# Altium footprint library CN_RJ45_ERNI_203197.PcbLib: 1 footprints
Each footprint in its own frame and in the unit in brackets; x right, y up, seen from the top. Pads: shape width x height; smd on the part's side, far side on the other; paste and mask are expansions set on the pad; w line width, h text height; cw(c..) or ccw(c..) is an arc to the next point about the centre after c.
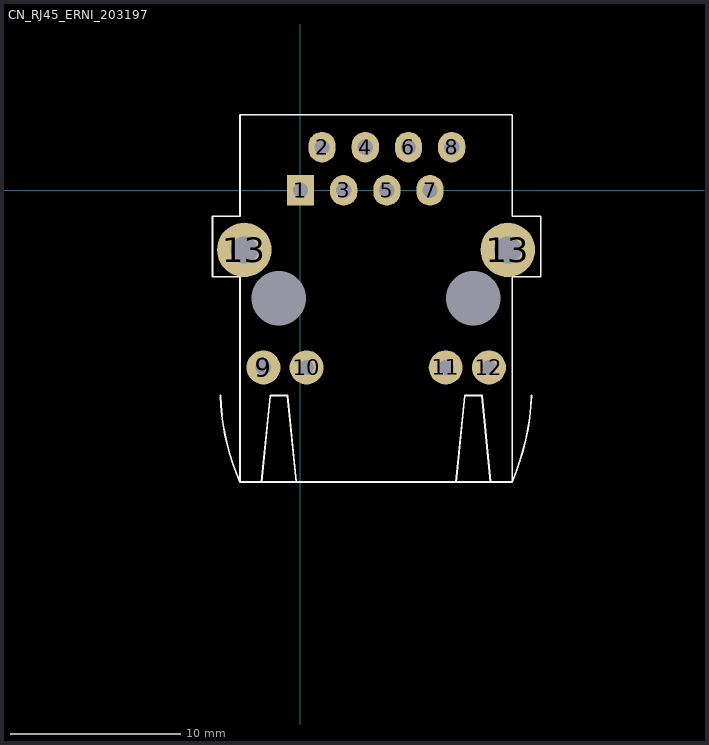
[diagram p0: the footprint, top view; thin cyan lines are the x and y axes]

## CN_RJ45_ERNI_203197 [mm] "90°, two LEDs, Magnetics, Single"
pads (16):
  round 0 hole 3.2 unplated mask+1.6: 0(-1.27,-6.35) 0(10.16,-6.35)
  rect 1.6x1.8 hole 0.9: 1(0,0)
  oval 1.6x1.8 hole 0.9: 2(1.27,2.54) 3(2.54,0) 4(3.81,2.54) 5(5.08,0) 6(6.35,2.54) 7(7.62,0) 8(8.89,2.54)
  round 2 hole 0.9: 9(-2.18,-10.41) 10(0.36,-10.41) 11(8.54,-10.41) 12(11.08,-10.41)
  round 3.2 hole 1.6: 13(-3.302,-3.5) 13(12.192,-3.5)
Top Overlay:
  lines w0.102: -4.699,-12.065 ccw(c8.577,-11.747) -3.556,-17.145 ; -2.286,-17.145 -1.778,-12.065 -0.762,-12.065 -0.254,-17.145 ; 9.144,-17.145 9.652,-12.065 10.668,-12.065 11.176,-17.145 ; 13.589,-12.065 cw(c-0.979,-11.456) 12.446,-17.145 ; -3.556,-17.145 -3.556,-5.08 -5.169,-5.08 -5.169,-1.524 -3.556,-1.524 -3.556,4.445 12.446,4.445 12.446,-1.524 14.135,-1.524 14.135,-5.08 12.446,-5.08 12.446,-17.145 ; -3.556,-17.145 12.446,-17.145
3D body: height 15.23, standoff -3.2, extent -5.1,-17.24 13.99,4.35